# EAGLE library part 691413720020 (library Terminal_Blocks_Connectors_rev15e)
WR-TBL Terminal block - serie 413 5.0mm - Spring clamp/Screw less - 45° entry - 20p Code:Con_TBL_Screwless_5.00_6914137200xxB_691413720020 <http://katalog.we-online.de/media/images/eican/Con_TBL_Screwless_5.00_6914137200xxB_pf2.jpg> Details see: http://katalog.we-online.de/en/em/691_413_720_0xxB/691_413_720_020B?m Created 2014-12-22, aslant tao 2014 (C) Würth Elektronik
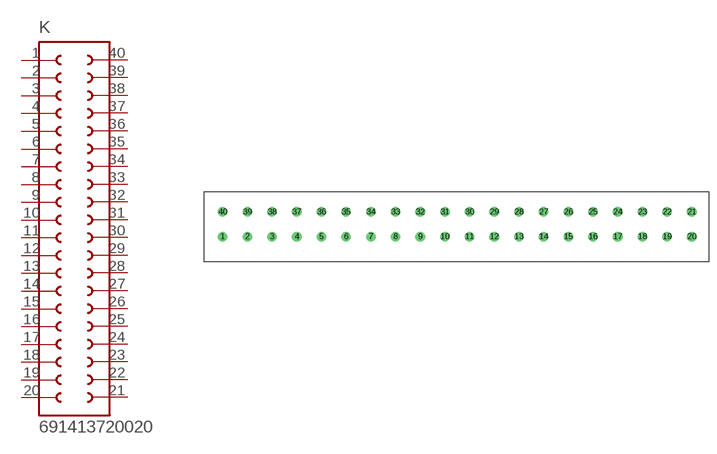
[diagram p297: symbol with the pads of 691413720020; footprint 691413720020]

Designator prefix K

## 691413720020  [691413720020]
1  1  pas
2  2  pas
3  3  pas
4  4  pas
5  5  pas
6  6  pas
7  7  pas
8  8  pas
9  9  pas
10  10  pas
11  11  pas
12  12  pas
13  13  pas
14  14  pas
15  15  pas
16  16  pas
17  17  pas
18  18  pas
19  19  pas
20  20  pas
21  21  pas
22  22  pas
23  23  pas
24  24  pas
25  25  pas
26  26  pas
27  27  pas
28  28  pas
29  29  pas
30  30  pas
31  31  pas
32  32  pas
33  33  pas
34  34  pas
35  35  pas
36  36  pas
37  37  pas
38  38  pas
39  39  pas
40  40  pas

## Footprint 691413720020 (pad centres in mm)
WR-TBL Serie 413 - 5.0mm Screwless 45° Entry - 3 mm2 Wires, 20 Pins
drill 1.3: 1 0,-2.5; 2 5,-2.5; 3 10,-2.5; 4 15,-2.5; 5 20,-2.5; 6 25,-2.5; 7 30,-2.5; 8 35,-2.5; 9 40,-2.5; 10 45,-2.5; 11 50,-2.5; 12 55,-2.5; 13 60,-2.5; 14 65,-2.5; 15 70,-2.5; 16 75,-2.5; 17 80,-2.5; 18 85,-2.5; 19 90,-2.5; 20 95,-2.5; 21 95,2.5; 22 90,2.5; 23 85,2.5; 24 80,2.5; 25 75,2.5; 26 70,2.5; 27 65,2.5; 28 60,2.5; 29 55,2.5; 30 50,2.5; 31 45,2.5; 32 40,2.5; 33 35,2.5; 34 30,2.5; 35 25,2.5; 36 20,2.5; 37 15,2.5; 38 10,2.5; 39 5,2.5; 40 0,2.5